# EAGLE library part 18F14K50 (library pic18f14k50)
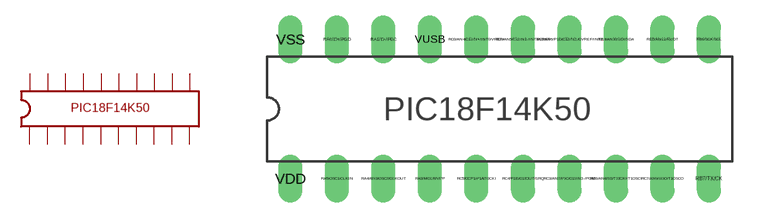
[diagram p0: symbol with the pads of E.18F14K50; footprint E.18F14K50]

Designator prefix -

## 18F14K50  [E.18F14K50]
RA0/D+/PGD  RA0/D+/PGD
RA1/D-/PGC  RA1/D-/PGC
RA3/MCLR/VPP  RA3/MCLR/VPP
RA4/AN3/OSC2/CLKOUT  RA4/AN3/OSC2/CLKOUT
RA5/OSC1/CLKIN  RA5/OSC1/CLKIN
RB4/AN10/SDI/SDA  RB4/AN10/SDI/SDA
RB5/AN11/RX/DT  RB5/AN11/RX/DT
RB6/SCK/SCL  RB6/SCK/SCL
RB7/TX/CK  RB7/TX/CK
RC0/AN4/C12IN+/INT0/VREF+  RC0/AN4/C12IN+/INT0/VREF+
RC1/AN5/C12IN1-/INT1/VREF  RC1/AN5/C12IN1-/INT1/VREF
RC2/AN6/P1D/C12IN2-/CVREF/INT2  RC2/AN6/P1D/C12IN2-/CVREF/INT2
RC3/AN7/P1C/C12IN3-/PGM  RC3/AN7/P1C/C12IN3-/PGM
RC4/P1B/C12OUT/SRQ  RC4/P1B/C12OUT/SRQ
RC5/CCP1/P1A/T0CKI  RC5/CCP1/P1A/T0CKI
RC6/AN8/SS/T13CKI/T1OSCI  RC6/AN8/SS/T13CKI/T1OSCI
RC7/AN9/SDO/T1OSCO  RC7/AN9/SDO/T1OSCO
VDD  VDD  pwr
VSS  VSS  pwr
VUSB  VUSB

## Footprint E.18F14K50 (pad centres in mm)
drill 0.8 long: RA0/D+/PGD -7.62,3.81; RA1/D-/PGC -5.08,3.81; RA3/MCLR/VPP -2.54,-3.81; RA4/AN3/OSC2/CLKOUT -5.08,-3.81; RA5/OSC1/CLKIN -7.62,-3.81; RB4/AN10/SDI/SDA 7.62,3.81; RB5/AN11/RX/DT 10.16,3.81; RB6/SCK/SCL 12.7,3.81; RB7/TX/CK 12.7,-3.81; RC0/AN4/C12IN+/INT0/VREF+ 0,3.81; RC1/AN5/C12IN1-/INT1/VREF 2.54,3.81; RC2/AN6/P1D/C12IN2-/CVREF/INT2 5.08,3.81; RC3/AN7/P1C/C12IN3-/PGM 5.08,-3.81; RC4/P1B/C12OUT/SRQ 2.54,-3.81; RC5/CCP1/P1A/T0CKI 0,-3.81; RC6/AN8/SS/T13CKI/T1OSCI 7.62,-3.81; RC7/AN9/SDO/T1OSCO 10.16,-3.81; VDD -10.16,-3.81; VSS -10.16,3.81; VUSB -2.54,3.81